# EAGLE library part AD9835 (library SparkFun)
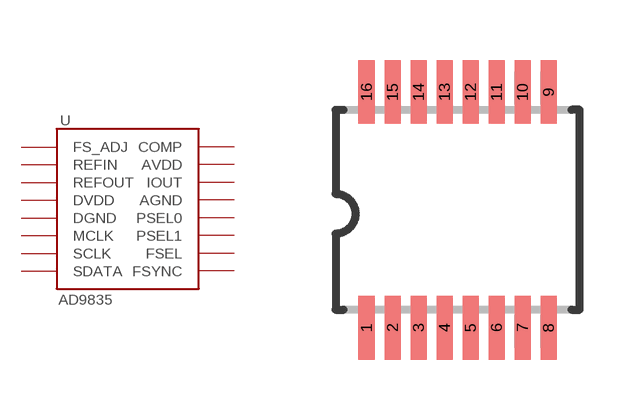
[diagram p195: symbol with the pads of TSSOP16; footprint TSSOP16]

Designator prefix -

## AD9835  [TSSOP16]
1  FS_ADJ
2  REFIN
3  REFOUT
4  DVDD
5  DGND
6  MCLK
7  SCLK
8  SDATA
9  FSYNC
10  FSEL
11  PSEL1
12  PSEL0
13  AGND
14  IOUT
15  AVDD
16  COMP

## Footprint TSSOP16 (pad centres in mm)
TSOP16 thin small outline package
smd 0.4 x 1.6: 1 -2.225,-2.85; 2 -1.575,-2.85; 3 -0.925,-2.85; 4 -0.275,-2.85; 5 0.375,-2.85; 6 1.025,-2.85; 7 1.675,-2.85; 8 2.325,-2.85; 9 2.325,3.05; 10 1.675,3.05; 11 1.025,3.05; 12 0.375,3.05; 13 -0.275,3.05; 14 -0.925,3.05; 15 -1.575,3.05; 16 -2.225,3.05